# EAGLE library part FASTRAXUC322 (library MyLib)
Fastrax UC322 OEM GPS Receiver module
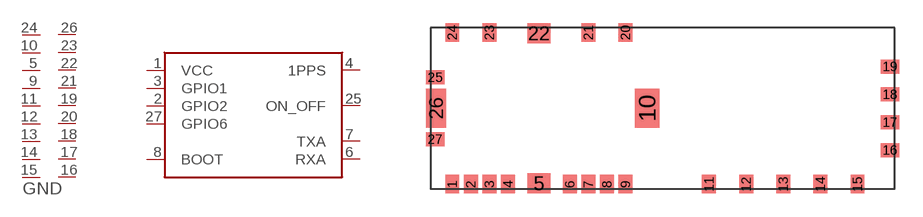
[diagram p0: symbol with the pads of FASTRAXUC322; footprint FASTRAXUC322]

Designator prefix -; gates G$1=FASTRAXUC322 G$2=PWRN

## FASTRAXUC322  [FASTRAXUC322]
1  G$1:VCC
2  G$1:GPIO2
3  G$1:GPIO1
4  G$1:1PPS
5  G$2:GND  pwr
6  G$1:RXA
7  G$1:TXA
8  G$1:BOOT
9  G$2:GND  pwr
10  G$2:GND  pwr
11  G$2:GND  pwr
12  G$2:GND  pwr
13  G$2:GND  pwr
14  G$2:GND  pwr
15  G$2:GND  pwr
16  G$2:GND  pwr
17  G$2:GND  pwr
18  G$2:GND  pwr
19  G$2:GND  pwr
20  G$2:GND  pwr
21  G$2:GND  pwr
22  G$2:GND  pwr
23  G$2:GND  pwr
24  G$2:GND  pwr
25  G$1:ON_OFF
26  G$2:GND  pwr
27  G$1:GPIO6

## Footprint FASTRAXUC322 (pad centres in mm)
Fastrax UC322 OEM GPS Receiver module
smd 0.9 x 1.2: 1 1.7,0.6; 2 2.9,0.6; 3 4.1,0.6; 4 5.3,0.6; 6 9.3,0.6; 7 10.5,0.6; 8 11.7,0.6; 9 12.9,0.6; 11 18.3,0.6; 12 20.7,0.6; 13 23.1,0.6; 14 25.5,0.6; 15 27.9,0.6; 20 12.9,10.4; 21 10.5,10.4; 23 4.1,10.4; 24 1.7,10.4
smd 1.5 x 1.3: 5 7.3,0.65; 22 7.3,10.35
smd 1.6 x 2.5: 10 14.3,5.5
smd 1.2 x 0.9: 16 30,2.8; 17 30,4.6; 18 30,6.4; 19 30,8.2; 25 0.6,7.5; 27 0.6,3.5
smd 1.3 x 2.5: 26 0.65,5.5